# EAGLE library part DAC-MCP4725-MODULE (library diy-modules)
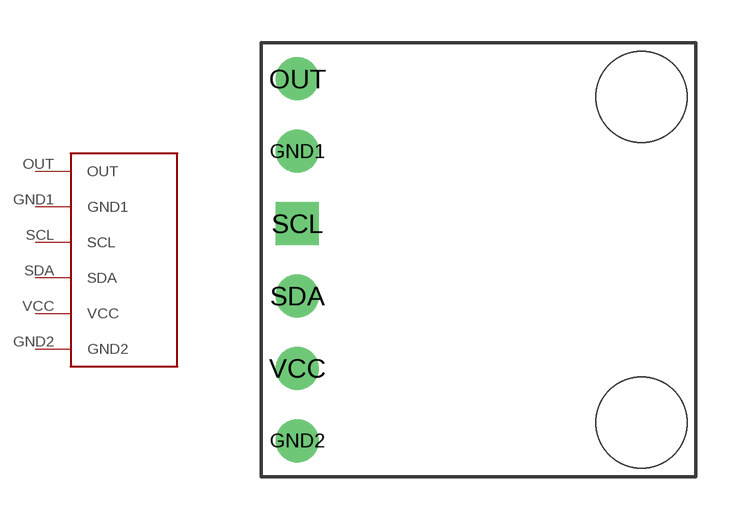
[diagram p67: symbol with the pads of DAC-MCP4725-MODULE; footprint DAC-MCP4725-MODULE]

Designator prefix CI

## DAC-MCP4725-MODULE  [DAC-MCP4725-MODULE]
GND1  GND1
GND2  GND2
OUT  OUT
SCL  SCL
SDA  SDA
VCC  VCC

## Footprint DAC-MCP4725-MODULE (pad centres in mm)
drill 1: GND1 -6.35,3.81; GND2 -6.35,-6.35; OUT -6.35,6.35; SDA -6.35,-1.27; VCC -6.35,-3.81
drill 1 square: SCL -6.35,1.27
hole 3.2 at 5.715,-5.715
hole 3.2 at 5.715,5.715